# Altium footprint library RCL.PcbLib: 86 footprints (part 6 of 6)
Each footprint in its own frame and in the unit in brackets; x right, y up, seen from the top. Pads: shape width x height; smd on the part's side, far side on the other; paste and mask are expansions set on the pad; w line width, h text height; cw(c..) or ccw(c..) is an arc to the next point about the centre after c.
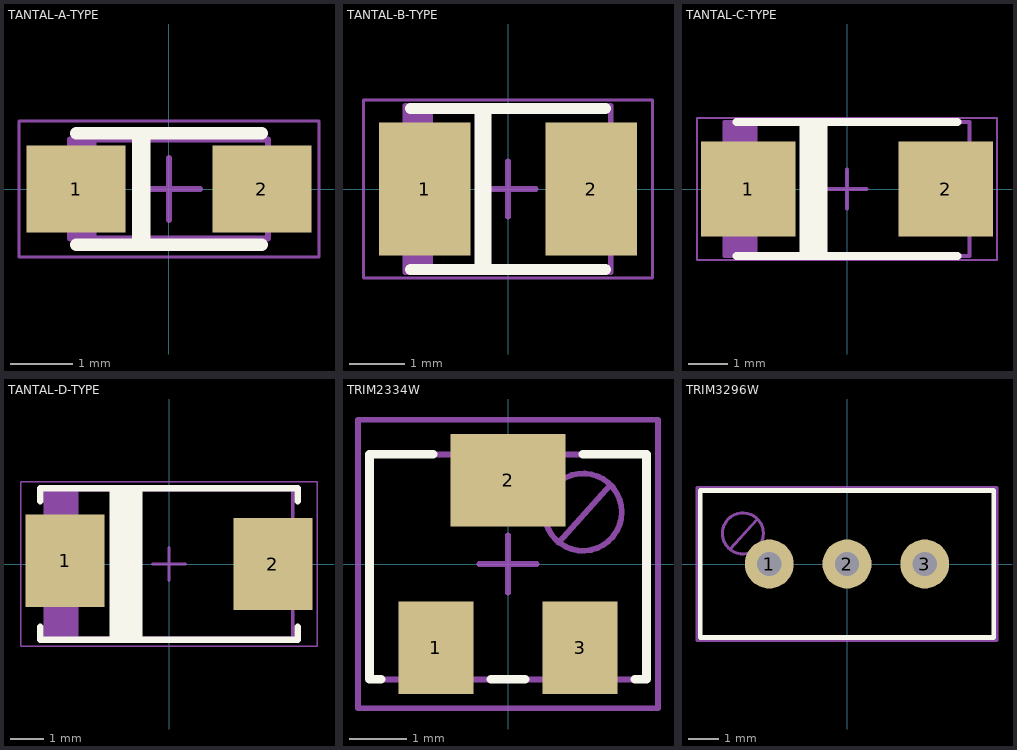
[diagram p5: the footprints below, top view; thin cyan lines are the x and y axes]

## TANTAL-A-TYPE [mm] "Molded Capacitor, 2-Leads, Body 3,20x1,60mm, IPC Medium Density"
height 1.8
pads (2):
  rect 1.6x1.4 smd: 1(-1.5,0) 2(1.5,0)
Top Overlay:
  rectangle: -0.6,-0.9 -0.3,0.9
  lines w0.2: -1.5,-0.9 1.5,-0.9 ; -1.5,0.9 1.5,0.9
Top Assembly (Mech3):
  rectangle: -1.6,-0.8 -1.17,0.8
  lines w0.1: -1.6,-0.8 -1.6,0.8 1.6,0.8 1.6,-0.8 -1.6,-0.8
Top Courtyard:
  lines w0.05: -2.425,-1.1 -2.425,1.1 2.425,1.1 2.425,-1.1 -2.425,-1.1
  lines w0.1: -0.5,0 0.5,0 ; 0,-0.5 0,0.5
3D body "Tant Cap SMD size A _ 3216-18.stp": height 1.64, standoff 0.01, extent -1.73,-0.8 1.73,0.8

## TANTAL-B-TYPE [mm] "Molded Capacitor, 2-Leads, Body 3,50x2,80mm, IPC Medium Density"
height 2.1
pads (2):
  rect 1.65x2.4 smd: 1(-1.5,0) 2(1.5,0)
Top Overlay:
  rectangle: -0.6,-1.5 -0.3,1.45
  lines w0.2: -1.75,-1.45 1.75,-1.45 ; -1.75,1.45 1.75,1.45
Top Assembly (Mech3):
  rectangle: -1.85,-1.5 -1.352,1.5
  lines w0.1: -1.85,-1.5 1.85,-1.5 1.85,1.5 -1.85,1.5 -1.85,-1.5
Top Courtyard:
  lines w0.05: -2.6,-1.6 2.6,-1.6 2.6,1.6 -2.6,1.6 -2.6,-1.6
  lines w0.1: -0.5,0 0.5,0 ; 0,-0.5 0,0.5
3D body "User Library-AVX_BCASE.step": height 2.03, standoff 0, extent -1.85,-1.465 1.85,1.465

## TANTAL-C-TYPE [mm] "Molded Capacitor, 2-Leads, Body 6,00x3,20mm, IPC Medium Density"
height 2.8
pads (2):
  rect 2.4x2.4 smd: 1(-2.5,0) 2(2.5,0)
Top Overlay:
  rectangle: -1.2,-1.7 -0.5,1.7
  lines w0.2: -2.8,-1.7 2.8,-1.7 ; -2.8,1.7 2.8,1.7
Top Assembly (Mech3):
  rectangle: -3.1,-1.7 -2.266,1.7
  lines w0.1: -3.1,-1.7 -3.1,1.7 3.1,1.7 3.1,-1.7 -3.1,-1.7
Top Courtyard:
  lines w0.05: -3.8,-1.8 -3.8,1.8 3.8,1.8 3.8,-1.8 -3.8,-1.8
  lines w0.1: -0.5,0 0.5,0 ; 0,-0.5 0,0.5
3D body "User Library-cap_c.step": height 2.51, standoff 0, extent -2.997,-1.6 2.997,1.6

## TANTAL-D-TYPE [mm] "Molded Capacitor, 2-Leads, Body 7,30x4,35mm, IPC Medium Density"
height 3.1
pads (2):
  rect 2.4x2.8 smd: 1(-3.15,0.1) 2(3.15,0)
Top Overlay:
  rectangle: -1.8,-2.3 -0.8,2.3
  lines w0.2: -3.9,-1.9 -3.9,-2.3 3.9,-2.3 3.9,-1.9 ; -3.9,1.9 -3.9,2.3 3.9,2.3 3.9,1.9
Top Assembly (Mech3):
  rectangle: -3.75,-2.25 -2.741,2.25
  lines w0.1: -3.75,-2.25 -3.75,2.25 3.75,2.25 3.75,-2.25 -3.75,-2.25
Top Courtyard:
  lines w0.05: -4.5,-2.5 -4.5,2.5 4.5,2.5 4.5,-2.5 -4.5,-2.5
  lines w0.1: -0.5,0 0.5,0 ; 0,-0.5 0,0.5
3D body "User Library-cap_d.step": height 2.81, standoff 0, extent -3.647,-2.15 3.647,2.15

## TRIM2334W [mm] "Bourns 3224W Trimming Pot"
height 5.3
pads (3):
  rect 1.3x1.6 smd: 1(-1.25,-1.45) 3(1.25,-1.45)
  rect 2x1.6 smd: 2(0,1.45)
Top Overlay:
  lines w0.15: -2.2,-2 -2.4,-2 -2.4,1.9 -1.3,1.9 ; -0.3,-2 0.3,-2 ; 1.3,1.9 2.4,1.9 2.4,-2 2.2,-2
Top Assembly (Mech3):
  circle w0.1: c1.3,0.9 r0.671
  lines w0.1: 0.876,0.374 1.776,1.374 ; -2.4,-2 -2.4,1.9 2.4,1.9 2.4,-2 -2.4,-2
Top Courtyard:
  lines w0.1: -0.5,0 0.5,0 ; 0,-0.5 0,0.5 ; -2.6,-2.5 2.6,-2.5 2.6,2.5 -2.6,2.5 -2.6,-2.5
3D body "3224W.stp": height 5.29, standoff 0, extent -2.408,-2.025 2.418,1.93

## TRIM3296W [mm] "Bourns 3296W Trimming Pot"
height 11.5
pads (3):
  round 1.6 hole 0.8: 1(-2.54,0) 2(0,0) 3(2.54,0)
Top Overlay:
  lines w0.15: -4.8,-2.4 -4.8,2.4 4.8,2.4 4.8,-2.4 -4.8,-2.4
Top Assembly (Mech3):
  circle w0.1: c-3.4,1 r0.671
  lines w0.1: -3.824,0.474 -2.924,1.474 ; -4.8,-2.4 -4.8,2.4 4.8,2.4 4.8,-2.4 -4.8,-2.4
Top Courtyard:
  lines w0.1: -0.5,0 0.5,0 ; 0,-0.5 0,0.5 ; -4.9,-2.5 4.9,-2.5 4.9,2.5 -4.9,2.5 -4.9,-2.5
3D body "Trimpot_3296W.STEP": height 11.55, standoff -2.6, extent -4.765,-2.415 4.765,2.415